# EAGLE library part 750313924 (library wurth_electronics_midcom_inc_v2-1)
Package Style: ER35/21 Mounting: THT Pins: 9 pins Bobbin: 070-6278 Best pinouts for production vary per application. Please contact Wurth Electronics Midcom, Inc. for assistance with your custom design. Website: Wurth Electronics Midcom <http://www.we-online.com/midcom> Contact us Wurth Electronics Midcom, Inc. 121 Airport Dr. Watertown, SD 57201 Phone: (605) 886-4385 Fax: (605) 886-4486 E-Mail: midcom@we-online.com
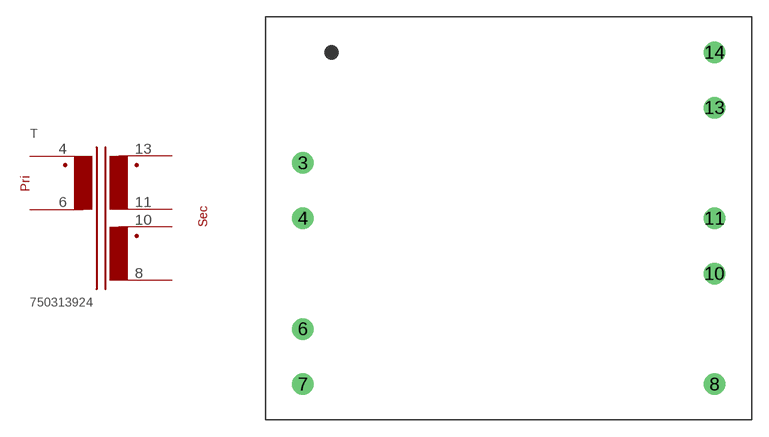
[diagram p109: symbol with the pads of ER35/21_THT_H_9PIN_(6278); footprint ER35/21_THT_H_9PIN_(6278)]

Designator prefix T

## 750313924  [ER35/21_THT_H_9PIN_(6278)]
4  4  pas
6  6  pas
8  8  pas
10  10  pas
11  11  pas
13  13  pas

## Footprint ER35/21_THT_H_9PIN_(6278) (pad centres in mm)
Package Style: ER35/21 Mounting: THT Pins: 14 Bobbin: 070-6278
drill 1.295: 3 -18.605,5.004; 4 -18.605,0; 6 -18.605,-10.008; 7 -18.605,-15.011; 8 18.605,-15.011; 10 18.605,-5.004; 11 18.605,0; 13 18.605,10.008; 14 18.605,15.011